# EAGLE library part SIR882DP-T1-GE3 (library balancer)
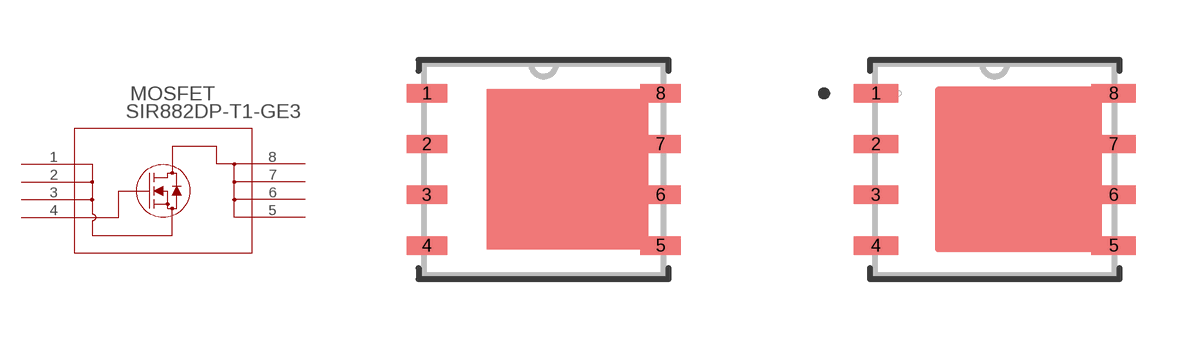
[diagram p1: symbol with the pads of POWERPAK_SO-8_SINGLE_VIS; footprints POWERPAK_SO-8_SINGLE_VIS, POWERPAK_SO-8_SINGLE_VIS-M]

Designator prefix MOSFET

## SIR882DP-T1-GE3 (COPYRIGHT: Copyright (C) 2026 Ultra Librarian. All rights reserved.; DATASHEET: https://www.vishay.com/doc?65932; DESCRIPTION: N-CHANNEL 100-V (D-S) MOSFET; MANUFACTURER_NAME: Vishay; MANUFACTURER_PART_NUMBER: SIR882DP-T1-GE3)  [POWERPAK_SO-8_SINGLE_VIS]
1  1  pas
2  2  pas
3  3  pas
4  4  pas
5  5  pas
6  6  pas
7  7  pas
8  8  pas

## SIR882DP-T1-GE3POWERPAK_SO-8_SINGLE_VIS-M (COPYRIGHT: Copyright (C) 2026 Ultra Librarian. All rights reserved.; DATASHEET: https://www.vishay.com/doc?65932; DESCRIPTION: N-CHANNEL 100-V (D-S) MOSFET; MANUFACTURER_NAME: Vishay; MANUFACTURER_PART_NUMBER: SIR882DP-T1-GE3)  [POWERPAK_SO-8_SINGLE_VIS-M]
Pads as for POWERPAK_SO-8_SINGLE_VIS

## SIR882DP-T1-GE3POWERPAK_SO-8_SINGLE_VIS-L (COPYRIGHT: Copyright (C) 2026 Ultra Librarian. All rights reserved.; DATASHEET: https://www.vishay.com/doc?65932; DESCRIPTION: N-CHANNEL 100-V (D-S) MOSFET; MANUFACTURER_NAME: Vishay; MANUFACTURER_PART_NUMBER: SIR882DP-T1-GE3)  [POWERPAK_SO-8_SINGLE_VIS-L]
Pads as for POWERPAK_SO-8_SINGLE_VIS

## Footprint POWERPAK_SO-8_SINGLE_VIS (pad centres in mm)
smd 1.016 x 0.457: 1 -2.921,1.905; 2 -2.921,0.635; 3 -2.921,-0.635; 4 -2.921,-1.905; 5 2.921,-1.905; 6 2.921,-0.635; 7 2.921,0.635; 8 2.921,1.905

## Footprint POWERPAK_SO-8_SINGLE_VIS-M (pad centres in mm)
smd 1.118 x 0.457: 1 -2.972,1.905; 2 -2.972,0.635; 3 -2.972,-0.635; 4 -2.972,-1.905; 5 2.972,-1.905; 6 2.972,-0.635; 7 2.972,0.635; 8 2.972,1.905

## Footprint POWERPAK_SO-8_SINGLE_VIS-L (pad centres in mm)
smd 0.914 x 0.457: 1 -2.87,1.905; 2 -2.87,0.635; 3 -2.87,-0.635; 4 -2.87,-1.905; 5 2.87,-1.905; 6 2.87,-0.635; 7 2.87,0.635; 8 2.87,1.905